# EAGLE library part PINHD-1X8 (library eduBoard)
PIN HEADER
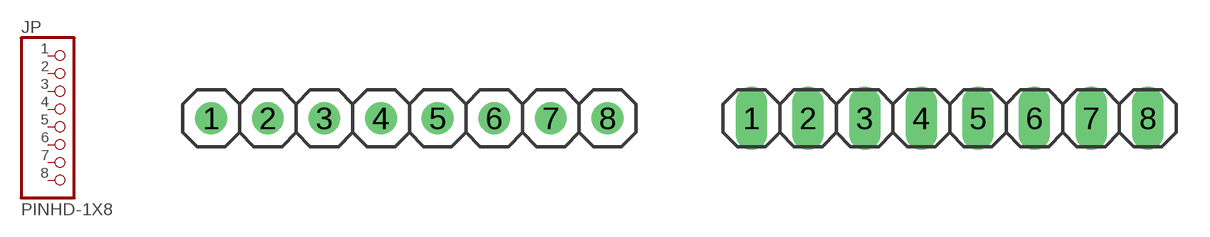
[diagram p0: symbol with the pads of 1X08; footprints 1X08, 1X08-OVAL]

Designator prefix JP

## PINHD-1X8RND  [1X08]
1  1  pas
2  2  pas
3  3  pas
4  4  pas
5  5  pas
6  6  pas
7  7  pas
8  8  pas

## PINHD-1X8OVAL  [1X08-OVAL]
Pads as for 1X08

## Footprint 1X08 (pad centres in mm)
PIN HEADER
drill 0.85 pad 1.422: 1 -8.89,0; 2 -6.35,0; 3 -3.81,0; 4 -1.27,0; 5 1.27,0; 6 3.81,0; 7 6.35,0; 8 8.89,0

## Footprint 1X08-OVAL (pad centres in mm)
drill 0.85 pad 1.422 long: 1 0,0; 2 2.54,0; 3 5.08,0; 4 7.62,0; 5 10.16,0; 6 12.7,0; 7 15.24,0; 8 17.78,0